# Altium schematic symbol library LM2576.SchLib: 1 symbol
Pins are listed as number, name and electrical type; pins without a type are passive.

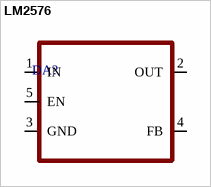
[diagram p0: symbol LM2576]

## LM2576
designator DA?
footprint TO-263-5
pins: 1 IN, 2 OUT, 3 GND, 4 FB, 5 EN